# Altium integrated library A_Active.IntLib: 13 symbols
Pins are listed as number, name and electrical type; pins without a type are passive.

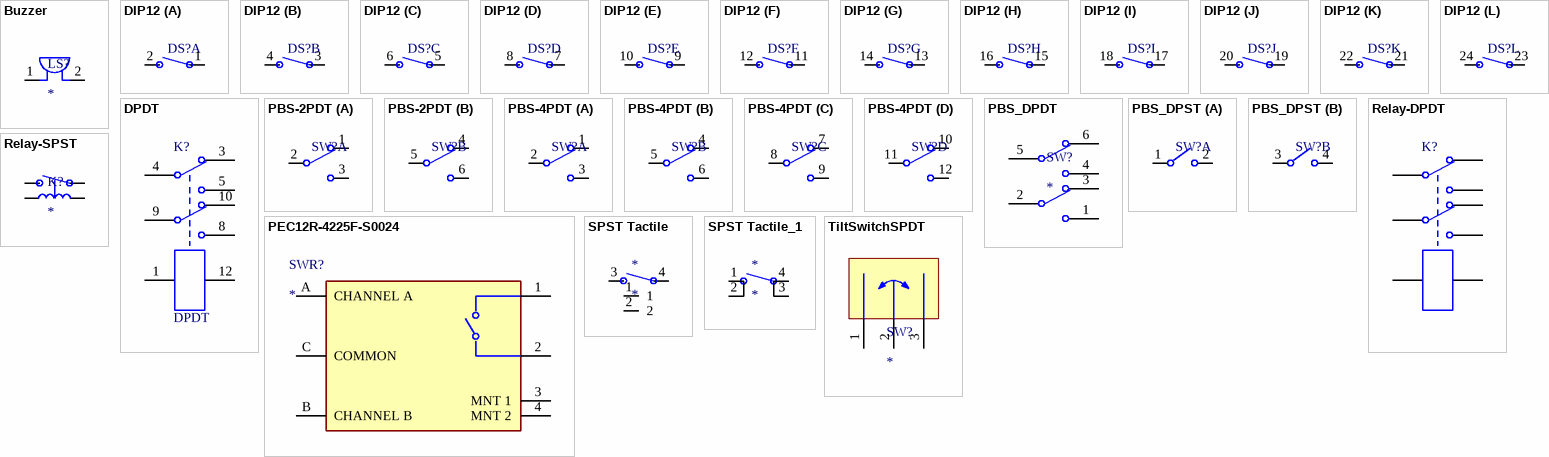
[diagram p0: symbols Buzzer to TiltSwitchSPDT]

## Buzzer
designator LS?
footprint AC12L3A
pins: 1, 2

## DIP12
designator DS?
footprint 78B12T
part A pins: 1, 2
part B pins: 3, 4
part C pins: 5, 6
part D pins: 7, 8
part E pins: 9, 10
part F pins: 11, 12
part G pins: 13, 14
part H pins: 15, 16
part I pins: 17, 18
part J pins: 19, 20
part K pins: 21, 22
part L pins: 23, 24

## DPDT
designator K?
Dual-Pole Dual-Throw Relay
footprint EC2NU
pins: 1, 3, 4, 5, 8, 9, 10, 12

## PBS-2PDT
designator SW?
footprint PBH2U
footprint PS22F02
part A pins: 1, 2, 3
part B pins: 4, 5, 6

## PBS-4PDT
designator SW?
footprint PBH4U
part A pins: 1, 2, 3
part B pins: 4, 5, 6
part C pins: 7, 8, 9
part D pins: 10, 11, 12

## PBS_DPDT
designator SW?
footprint T-S2ALN4
pins: 1, 2, 3, 4, 5, 6

## PBS_DPST
designator SW?
footprint PB400
part A pins: 1, 2
part B pins: 3, 4

## PEC12R-4225F-S0024
designator SWR?
footprint PEC12R
pins: 1, 2, 3 MNT 1, 4 MNT 2, A CHANNEL A, B CHANNEL B, C COMMON

## Relay-DPDT
designator K?
Dual-Pole Dual-Throw Relay; Published: 24-Mar-1999; LatestRevisionDate: 17-Jul-2002; LatestRevisionNote: Re-released for DXP Platform.; PackageReference: DIP-P8; Publisher: Altium Limited; PackageDescription: Relay; 8 Leads
footprint EC2NU
pins: 1, 3, 4, 5, 8, 9, 10, 12

## Relay-SPST
designator K?
footprint PR27-xxx-S
pins: 1, 2, 3, 4

## SPST Tactile
designator *
footprint TL 1105_LL 1105
pins: 1, 2, 3, 4

## SPST Tactile_1
designator *
footprint TacSwitchTH
pins: 1, 2, 3, 4

## TiltSwitchSPDT
designator SW?
footprint TM1000
pins: 1, 2, 3